# Altium footprint library BalanceCar_pcblib.PcbLib: 36 footprints (part 1 of 3)
Each footprint in its own frame and in the unit in brackets; x right, y up, seen from the top. Pads: shape width x height; smd on the part's side, far side on the other; paste and mask are expansions set on the pad; w line width, h text height; cw(c..) or ccw(c..) is an arc to the next point about the centre after c.
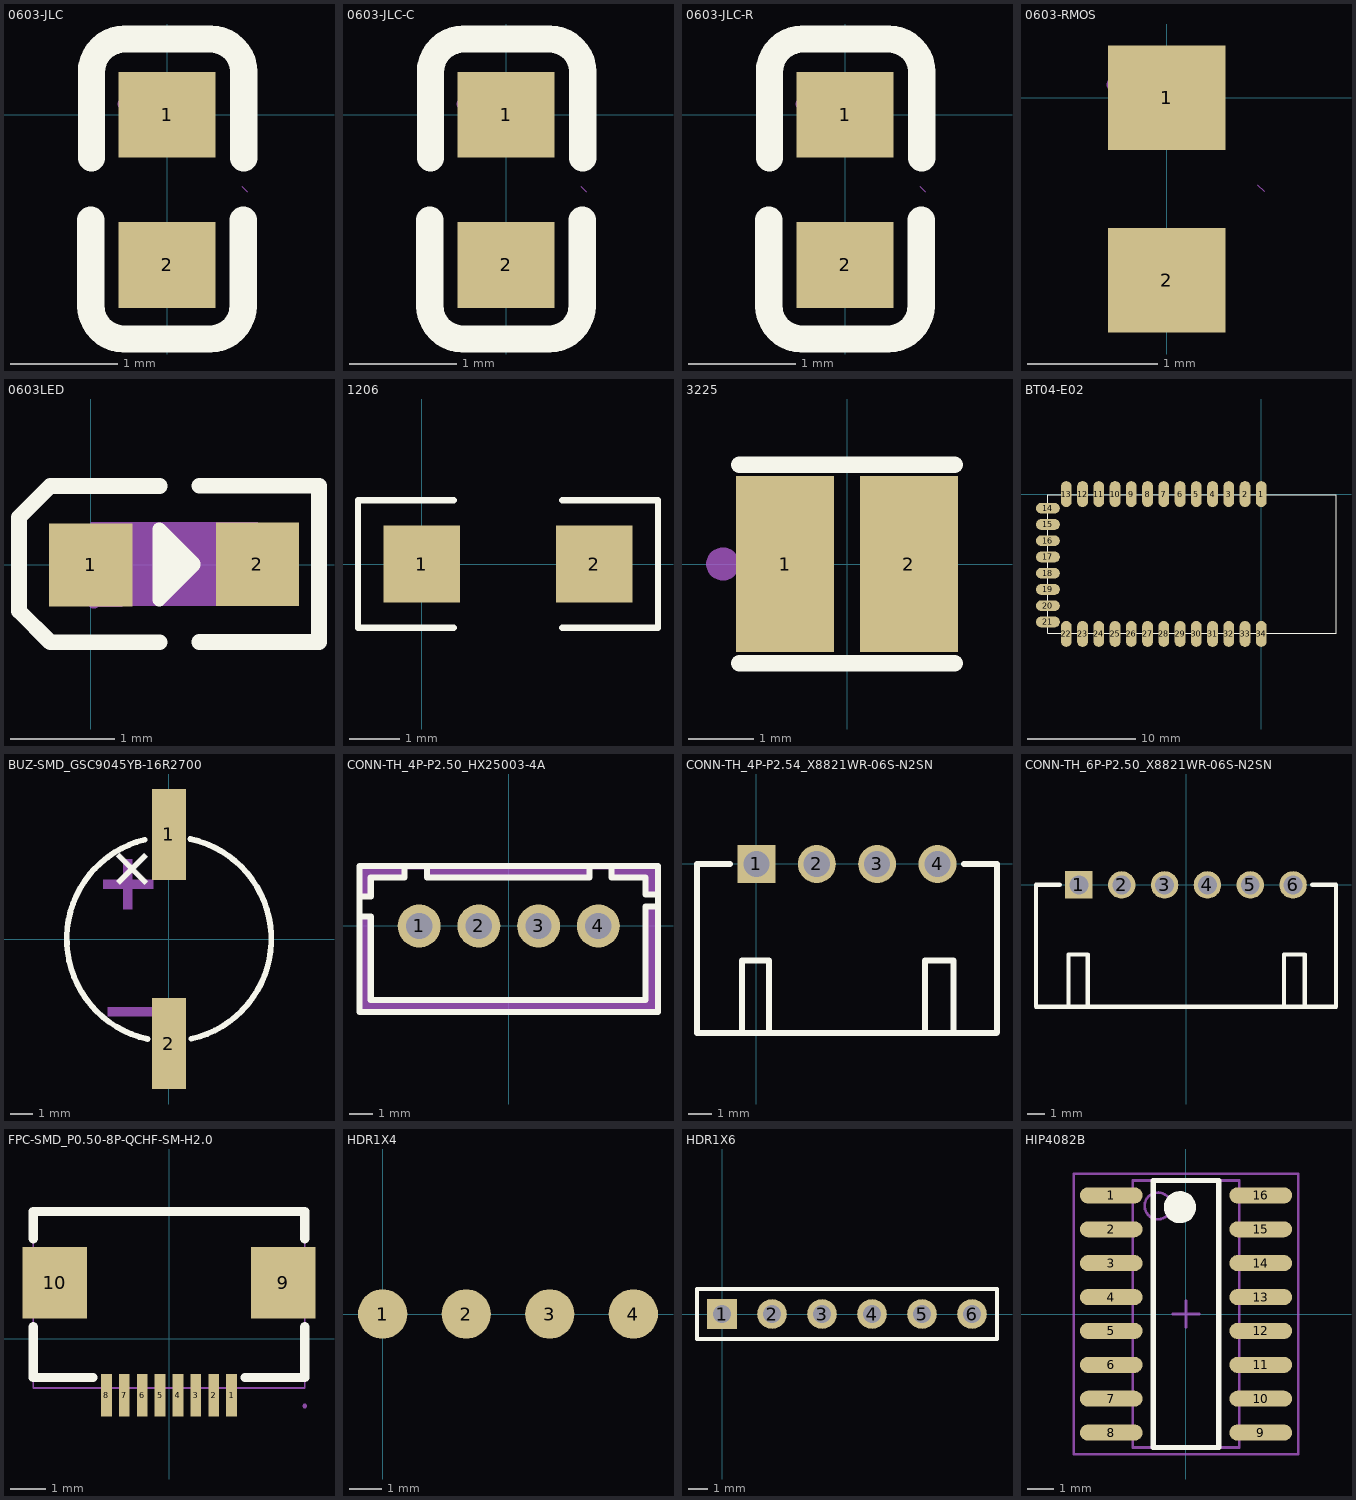
[diagram p0: the footprints below, top view; thin cyan lines are the x and y axes]

## 0603-JLC [mm]
pads (2):
  rect 0.9x0.8 smd: 1(0,0) 2(0,-1.4)
Top Overlay:
  lines w0.254: -0.71,-0.98 -0.71,-1.78 ccw(c-0.4,-1.78) -0.4,-2.09 0.4,-2.09 ccw(c0.4,-1.78) 0.71,-1.78 0.71,-0.98 ; -0.704,-0.404 -0.704,0.396 cw(c-0.394,0.396) -0.394,0.706 0.406,0.706 cw(c0.406,0.396) 0.715,0.396 0.715,-0.404
Top Paste:
  region: -0.138,-0.385 0.138,-0.385 0.432,0.018 0.432,0.314 0.368,0.378 -0.368,0.378 -0.432,0.314 -0.432,0.018
  region: -0.138,-1.015 0.138,-1.015 0.432,-1.418 0.432,-1.714 0.368,-1.778 -0.368,-1.778 -0.432,-1.714 -0.432,-1.418
Mechanical 5:
  region: -0.4,-1.5 0.4,-1.5 0.4,-1.2 -0.4,-1.2
  region: -0.4,0.1 0.4,0.1 0.4,-0.2 -0.4,-0.2
Mechanical 6:
  circle w0.06: c-0.4,0.1 r0.03
Mechanical 15:
  lines w0.003: 0.696,-0.667 0.747,-0.718

## 0603-JLC-C [mm]
pads (2):
  rect 0.9x0.8 smd: 1(0,0) 2(0,-1.4)
Top Overlay:
  lines w0.254: -0.71,-0.98 -0.71,-1.78 ccw(c-0.4,-1.78) -0.4,-2.09 0.4,-2.09 ccw(c0.4,-1.78) 0.71,-1.78 0.71,-0.98 ; -0.704,-0.404 -0.704,0.396 cw(c-0.394,0.396) -0.394,0.706 0.406,0.706 cw(c0.406,0.396) 0.715,0.396 0.715,-0.404
Top Paste:
  region: -0.138,-0.385 0.138,-0.385 0.432,0.018 0.432,0.314 0.368,0.378 -0.368,0.378 -0.432,0.314 -0.432,0.018
  region: -0.138,-1.015 0.138,-1.015 0.432,-1.418 0.432,-1.714 0.368,-1.778 -0.368,-1.778 -0.432,-1.714 -0.432,-1.418
Mechanical 5:
  region: -0.4,-1.5 0.4,-1.5 0.4,-1.2 -0.4,-1.2
  region: -0.4,0.1 0.4,0.1 0.4,-0.2 -0.4,-0.2
Mechanical 6:
  circle w0.06: c-0.4,0.1 r0.03
Mechanical 15:
  lines w0.003: 0.696,-0.667 0.747,-0.718

## 0603-JLC-R [mm]
pads (2):
  rect 0.9x0.8 smd: 1(0,0) 2(0,-1.4)
Top Overlay:
  lines w0.254: -0.71,-0.98 -0.71,-1.78 ccw(c-0.4,-1.78) -0.4,-2.09 0.4,-2.09 ccw(c0.4,-1.78) 0.71,-1.78 0.71,-0.98 ; -0.704,-0.404 -0.704,0.396 cw(c-0.394,0.396) -0.394,0.706 0.406,0.706 cw(c0.406,0.396) 0.715,0.396 0.715,-0.404
Top Paste:
  region: -0.138,-1.015 0.138,-1.015 0.432,-1.418 0.432,-1.714 0.368,-1.778 -0.368,-1.778 -0.432,-1.714 -0.432,-1.418
  region: -0.138,-0.385 0.138,-0.385 0.432,0.018 0.432,0.314 0.368,0.378 -0.368,0.378 -0.432,0.314 -0.432,0.018
Mechanical 5:
  region: -0.4,0.1 0.4,0.1 0.4,-0.2 -0.4,-0.2
  region: -0.4,-1.5 0.4,-1.5 0.4,-1.2 -0.4,-1.2
Mechanical 6:
  circle w0.06: c-0.4,0.1 r0.03
Mechanical 15:
  lines w0.003: 0.696,-0.667 0.747,-0.718

## 0603-RMOS [mm]
pads (2):
  rect 0.9x0.8 smd: 1(0,0) 2(0,-1.4)
Top Paste:
  region: -0.138,-1.015 0.138,-1.015 0.432,-1.418 0.432,-1.714 0.368,-1.778 -0.368,-1.778 -0.432,-1.714 -0.432,-1.418
  region: -0.138,-0.385 0.138,-0.385 0.432,0.018 0.432,0.314 0.368,0.378 -0.368,0.378 -0.432,0.314 -0.432,0.018
Mechanical 5:
  region: -0.4,0.1 0.4,0.1 0.4,-0.2 -0.4,-0.2
  region: -0.4,-1.5 0.4,-1.5 0.4,-1.2 -0.4,-1.2
Mechanical 6:
  circle w0.06: c-0.4,0.1 r0.03
Mechanical 15:
  lines w0.003: 0.696,-0.667 0.747,-0.718

## 0603LED [mm]
pads (2):
  rect 0.8x0.8 smd: 1(0,0) 2(1.599,0.007)
Top Overlay:
  region: 0.656,-0.334 0.991,0 0.991,0.011 0.656,0.345
  lines w0.127: 0.656,-0.335 0.656,0.345 0.991,0.011 0.991,0 0.656,-0.334 ; 0.656,-0.335 0.656,-0.334
  lines w0.15: 0.66,-0.742 -0.39,-0.742 -0.69,-0.442 -0.69,-0.342 -0.69,0.358 -0.69,0.458 -0.39,0.758 0.66,0.758 ; 1.04,-0.74 2.19,-0.74 ; 1.04,0.76 2.19,0.76 2.19,-0.72
Mechanical 4:
  region: 0,-0.39 0,0.41 1.6,0.41 1.6,-0.39
Mechanical 5:
  region: 1.3,-0.393 1.3,0.407 1.6,0.407 1.6,-0.393
  region: 0,-0.4 0,0.4 0.3,0.4 0.3,-0.4
Mechanical 6:
  circle w0.06: c0.029,-0.36 r0.03
Mechanical 15:
  region: 1.328,0.072 1.868,0.072 1.868,-0.058 1.328,-0.058
  region: 1.534,-0.264 1.534,0.276 1.664,0.276 1.664,-0.264
  region: -0.271,0.065 0.269,0.065 0.269,-0.065 -0.271,-0.065

## 1206 [mil]
height 62.99
pads (2):
  rect 60x60 smd: 1(0,0) 2(135,0)
Top Overlay:
  lines w5: 25,-50 -50,-50 -50,50 25,50 ; 110,-50 185,-50 185,50 110,50

## 3225 [mm]
pads (2):
  rect 1.5x2.7 smd: 1(-0.95,0) 2(0.95,0)
Top Overlay:
  lines w0.254: -1.651,-1.524 1.651,-1.524 ; -1.651,1.524 1.651,1.524
Mechanical 15:
  circle w0.254: c-1.905,0 r0.127

## BT04-E02 [mm]
pads (34):
  oval 1x2.4 smd: 1(0,0) 2(-1.5,0) 3(-3,0) 4(-4.5,0) 5(-6,0) 6(-7.5,0) 7(-9,0) 8(-10.5,0) 9(-12,0) 10(-13.5,0) 11(-15,0) 12(-16.5,0) 13(-18,0) 22(-18,-12.9) 23(-16.5,-12.9) 24(-15,-12.9) 25(-13.5,-12.9) 26(-12,-12.9) 27(-10.5,-12.9) 28(-9,-12.9) 29(-7.5,-12.9) 30(-6,-12.9) 31(-4.5,-12.9) 32(-3,-12.9) 33(-1.5,-12.9) 34(0,-12.9)
  oval 2.2x1 smd: 14(-19.7,-1.3) 15(-19.7,-2.8) 16(-19.7,-4.3) 17(-19.7,-5.8) 18(-19.7,-7.3) 19(-19.7,-8.8) 20(-19.7,-10.3) 21(-19.7,-11.8)
Top Overlay:
  lines w0.05: -19.7,-12.85 -19.7,-0.05 6.9,-0.05 6.9,-12.85 -19.7,-12.85

## BUZ-SMD_GSC9045YB-16R2700 [mm]
pads (2):
  rect 1.5x4 smd: 1(0,4.6) 2(0,-4.6)
Top Overlay:
  lines w0.254: -1.066,4.372 ccw(c0,0) -0.951,-4.398 ; 0.936,4.402 cw(c0,0) 0.974,-4.393
  text "+" at -1.822,1.626 h2.03
Mechanical 15:
  region: -2.701,-3.393 -2.701,-2.993 -0.501,-2.993 -0.501,-3.393
  region: -1.607,1.299 -2.007,1.299 -2.007,3.499 -1.607,3.499
  region: -2.901,2.207 -2.901,2.607 -0.701,2.607 -0.701,2.207

## CONN-TH_4P-P2.50_HX25003-4A [mm]
pads (4):
  round 1.8 hole 1.1 mask+0.051: 1(-3.75,0) 2(-1.25,0) 3(1.25,0) 4(3.75,0)
Top Overlay:
  lines w0.254: -6.25,1.23 -5.775,1.23 -5.775,2.025 -4.361,2.025 -4.361,2.475 ; -6.25,2.5 -6.25,-3.6 6.25,-3.6 6.25,2.5 ; -6.25,2.51 6.24,2.51 ; -6.24,0.4 -5.775,0.4 -5.775,-3.1 5.726,-3.1 5.726,0.811 6.226,0.811 ; -3.424,2.476 -3.424,2.026 1.019,2.026 ; 0.976,2.025 1.019,2.026 ; 3.375,2.475 3.375,2.025 1.019,2.025 ; 4.31,2.026 4.31,2.474 ; 4.314,2.025 5.726,2.025 5.726,1.319 6.226,1.319
Mechanical 6:
  region: -3.424,2.476 -3.424,2.026 3.374,2.026 3.375,2.025 3.375,2.475
  region: 4.31,2.474 4.31,2.029 4.314,2.025 5.726,2.025 5.726,1.319 6.226,1.319 6.226,2.476 6.25,2.5
  region: 6.226,0.811 5.726,0.811 5.726,-3.1 -5.775,-3.1 -5.775,0.4 -6.24,0.4 -6.24,-3.59 -6.25,-3.6 6.18,-3.6 6.25,-3.53
  region: -4.361,2.475 -4.361,2.025 -5.775,2.025 -5.775,1.23 -6.25,1.23 -6.25,2.5
Mechanical 15:
  region: -6.19,-3.5 -6.19,-3.475 -6.225,-3.44 -6.275,-3.44 -6.31,-3.475 -6.31,-3.5 -6.31,-3.525 -6.275,-3.56 -6.225,-3.56 -6.19,-3.525 -6.19,-3.5
  region: 3.43,0.32 4.07,0.32 4.07,-0.32 3.43,-0.32
  region: 0.93,0.32 1.57,0.32 1.57,-0.32 0.93,-0.32
  region: -1.57,0.32 -0.93,0.32 -0.93,-0.32 -1.57,-0.32
  region: -4.07,0.32 -3.43,0.32 -3.43,-0.32 -4.07,-0.32
  lines w0.051: -6.25,-3.5 6.25,-3.5 6.25,2.4 -6.25,2.4 -6.25,-3.5

## CONN-TH_4P-P2.54_X8821WR-06S-N2SN [mm]
pads (4):
  rect 1.6x1.6 hole 1.1: 1(0,0)
  round 1.6 hole 1.1: 2(2.54,0) 3(5.08,0) 4(7.62,0)
Top Overlay:
  lines w0.254: -1.116,0 -2.5,0 -2.5,-7.112 -0.608,-7.112 ; 0.522,-7.112 0.522,-4.064 -0.608,-4.064 -0.608,-7.112 ; 7.088,-7.112 7.088,-4.064 8.294,-4.064 8.294,-7.112 ; 8.739,0 10.123,0 10.123,-6.629 10.123,-7.098 10.109,-7.112 -0.608,-7.112

## CONN-TH_6P-P2.50_X8821WR-06S-N2SN [mm]
pads (6):
  rect 1.6x1.6 hole 1.1: 1(-6.25,0)
  round 1.6 hole 1.1: 2(-3.75,0) 3(-1.25,0) 4(1.25,0) 5(3.75,0) 6(6.25,0)
Top Overlay:
  lines w0.254: -7.366,0 -8.75,0 -8.75,-7.112 8.75,-7.112 8.75,0 7.366,0 ; -6.858,-7.112 -6.858,-4.064 -5.728,-4.064 -5.728,-7.112 ; 5.715,-7.112 5.715,-4.064 6.921,-4.064 6.921,-7.112

## FPC-SMD_P0.50-8P-QCHF-SM-H2.0 [mm]
pads (10):
  rect 0.3x1.2 smd mask+0.05: 1(1.75,-1.575) 2(1.25,-1.575) 3(0.75,-1.575) 4(0.25,-1.575) 5(-0.25,-1.575) 6(-0.75,-1.575) 7(-1.25,-1.575) 8(-1.75,-1.575)
  rect 1.8x2 smd mask+0.05: 9(3.2,1.575) 10(-3.2,1.575)
Top Overlay:
  lines w0.254: -3.8,0.344 -3.8,-1.075 -2.131,-1.075 ; -3.8,2.806 -3.8,3.575 ; -3.75,3.575 3.75,3.575 ; 2.131,-1.075 3.8,-1.075 3.8,0.344 ; 3.8,2.806 3.8,3.575
Mechanical 6:
  circle w0.15: c1.75,-1.8 r0.075
Mechanical 15:
  region: 2.649,2.325 3.8,2.325 3.8,0.825 2.649,0.825
  region: -2.65,0.825 -3.8,0.825 -3.8,2.325 -2.65,2.325
  region: 1.675,-1.875 1.675,-1.275 1.825,-1.275 1.825,-1.875
  region: 1.175,-1.875 1.175,-1.275 1.325,-1.275 1.325,-1.875
  region: 0.675,-1.875 0.675,-1.275 0.825,-1.275 0.825,-1.875
  region: 0.175,-1.875 0.175,-1.275 0.325,-1.275 0.325,-1.875
  region: -0.325,-1.875 -0.325,-1.275 -0.175,-1.275 -0.175,-1.875
  region: -0.825,-1.875 -0.825,-1.275 -0.675,-1.275 -0.675,-1.875
  region: -1.325,-1.875 -1.325,-1.275 -1.175,-1.275 -1.175,-1.875
  region: -1.825,-1.875 -1.825,-1.275 -1.675,-1.275 -1.675,-1.875
  region: 3.86,-1.875 3.86,-1.85 3.825,-1.815 3.775,-1.815 3.74,-1.85 3.74,-1.875 3.74,-1.9 3.775,-1.935 3.825,-1.935 3.86,-1.9 3.86,-1.875
  lines w0.051: -3.8,-1.375 3.8,-1.375 3.8,3.525 -3.8,3.525 -3.8,-1.375

## HDR1X4 [mm] "Connector; Header; 4 Position"
pads (4):
  round 1.5 smd: 1(0,0) 2(2.54,0) 3(5.08,0) 4(7.62,0)

## HDR1X6 [mm] "Connector; Header; 6 Position"
pads (6):
  rect 1.5x1.5 hole 0.9: 1(0,0)
  round 1.5 hole 0.9: 2(2.54,0) 3(5.08,0) 4(7.62,0) 5(10.16,0) 6(12.7,0)
Top Overlay:
  lines w0.2: -1.27,-1.27 -1.27,1.27 13.97,1.27 13.97,-1.27 -1.27,-1.27

## HIP4082B [mm]
height 7.87
pads (16):
  oval 2.35x0.6 smd: 1(-2.8,4.445) 2(-2.8,3.175) 3(-2.8,1.905) 4(-2.8,0.635) 5(-2.8,-0.635) 6(-2.8,-1.905) 7(-2.8,-3.175) 8(-2.8,-4.445) 9(2.8,-4.445) 10(2.8,-3.175) 11(2.8,-1.905) 12(2.8,-0.635) 13(2.8,0.635) 14(2.8,1.905) 15(2.8,3.175) 16(2.8,4.445)
Top Overlay:
  circle w0.6: c-0.225,4 r0.3
  lines w0.2: -1.225,-5 1.225,-5 1.225,5 -1.225,5 -1.225,-5
Mechanical 13:
  circle w0.1: c-1.05,4.05 r0.5
  lines w0.1: -2,-5 2,-5 2,5 -2,5 -2,-5
Mechanical 15:
  lines w0.1: -0.5,0 0.5,0 ; 0,-0.5 0,0.5 ; -4.2,-5.25 4.2,-5.25 4.2,5.25 -4.2,5.25 -4.2,-5.25